# EAGLE library part ADM2483 (library escd)
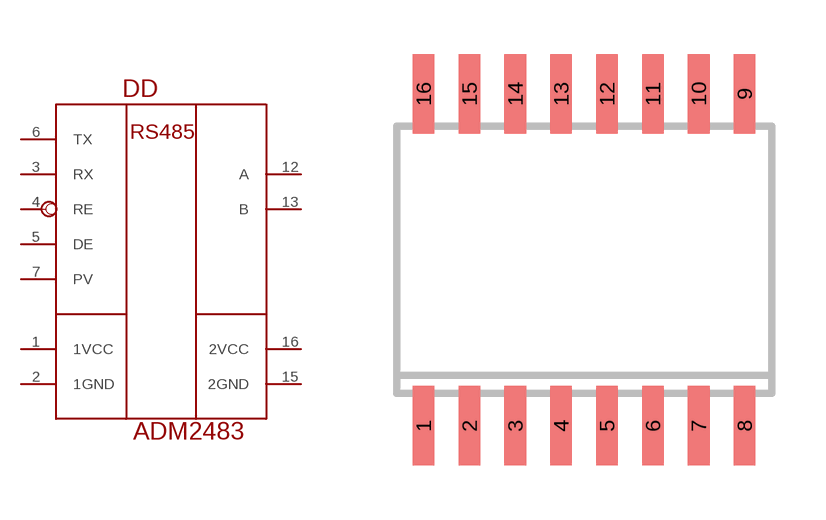
[diagram p1: symbol with the pads of SO16W; footprint SO16W]

Designator prefix DD

## ADM2483SO16W  [SO16W]
1  1VCC
2  1GND
3  RX
4  RE
5  DE
6  TX
7  PV
12  A
13  B
15  2GND
16  2VCC

## Footprint SO16W (pad centres in mm)
SMALL OUTLINE INTEGRATED CIRCUIT wide body 7.5 mm/JEDEC MS-013AA
smd 0.6 x 2.2: 1 -4.445,-4.6; 2 -3.175,-4.6; 3 -1.905,-4.6; 4 -0.635,-4.6; 5 0.635,-4.6; 6 1.905,-4.6; 7 3.175,-4.6; 8 4.445,-4.6; 9 4.445,4.6; 10 3.175,4.6; 11 1.905,4.6; 12 0.635,4.6; 13 -0.635,4.6; 14 -1.905,4.6; 15 -3.175,4.6; 16 -4.445,4.6